# EAGLE library part AXICOM_RELAY_23105 (library axicom-relay)
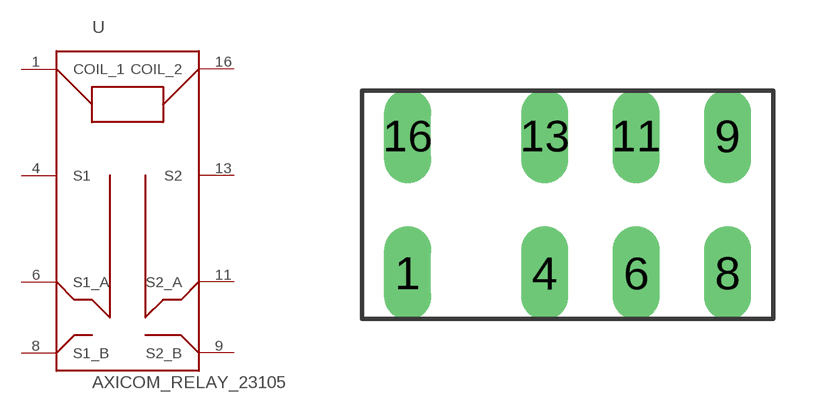
[diagram p0: symbol with the pads of AXICOM_RELAY_V23105; footprint AXICOM_RELAY_V23105]

Designator prefix -

## AXICOM_RELAY_23105  [AXICOM_RELAY_V23105]
1  COIL_1  pas
4  S1  pas
6  S1_A  pas
8  S1_B  pas
9  S2_B  pas
11  S2_A  pas
13  S2  pas
16  COIL_2  pas

## Footprint AXICOM_RELAY_V23105 (pad centres in mm)
drill 0.8 long: 1 0,0; 4 3.81,0; 6 6.35,0; 8 8.89,0; 9 8.89,3.81; 11 6.35,3.81; 13 3.81,3.81; 16 0,3.81